# EAGLE library part AD7705BN (library JSB2)
3V/5V, 1 mW, 2-Channel Differential, 16-Bit
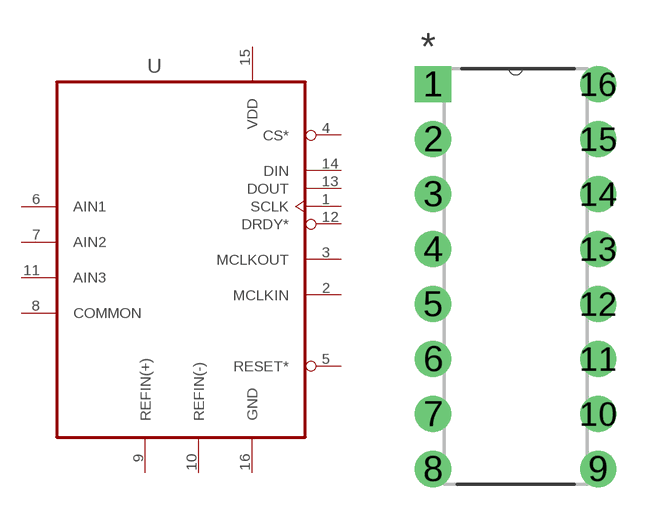
[diagram p4: symbol with the pads of DIP254P762X432-16P; footprint DIP254P762X432-16P]

Designator prefix U

## AD7705BN (MPN: AD7705BN; OC_FARNELL: unknown; OC_NEWARK: 19M0890; PACKAGE: DIP-16; SUPPLIER: Analog Devices)  [DIP254P762X432-16P]
1  SCLK  in
2  MCLKIN  pas
3  MCLKOUT  pas
4  CS*  in
5  RESET*  in
6  AIN1  pas
7  AIN2  pas
8  COMMON  pas
9  REFIN(+)  pas
10  REFIN(-)  pas
11  AIN3  pas
12  DRDY*  out
13  DOUT  out
14  DIN  in
15  VDD  pwr
16  GND  sup

## Footprint DIP254P762X432-16P (pad centres in mm)
drill 1.118 square: 1 -7.62,17.78
drill 1.118: 2 -7.62,15.24; 3 -7.62,12.7; 4 -7.62,10.16; 5 -7.62,7.62; 6 -7.62,5.08; 7 -7.62,2.54; 8 -7.62,0; 9 0,0; 10 0,2.54; 11 0,5.08; 12 0,7.62; 13 0,10.16; 14 0,12.7; 15 0,15.24; 16 0,17.78